# EAGLE library part STM8L051 (library stm8)
Value Line, 8-bit ultralow power MCU, 8-KB Flash, 256-byte data EEPROM, RTC, timers, USART, I2C, SPI, ADC
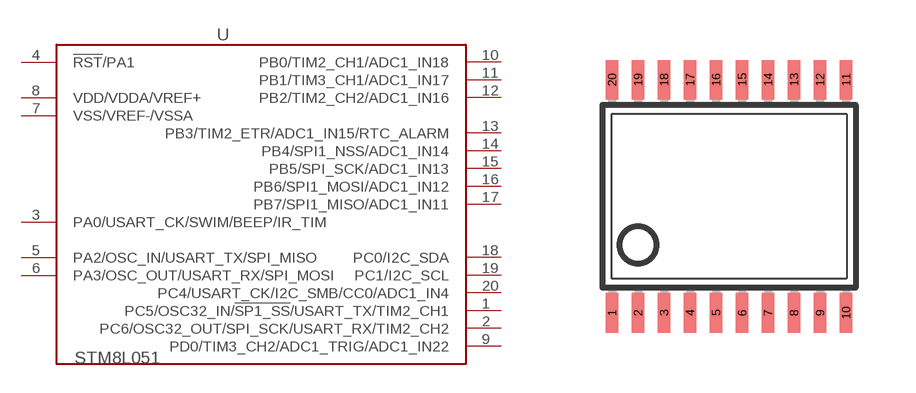
[diagram p1: symbol with the pads of TSSOP20; footprint TSSOP20]

Designator prefix -

## STM8L051F3  [TSSOP20]
1  PC5/OSC32_IN/!SP1_SS!/USART_TX/TIM2_CH1
2  PC6/OSC32_OUT/SPI_SCK/USART_RX/TIM2_CH2
3  PA0/USART_CK/SWIM/BEEP/IR_TIM  pwr
4  !RST!/PA1  in
5  PA2/OSC_IN/USART_TX/SPI_MISO
6  PA3/OSC_OUT/USART_RX/SPI_MOSI
7  VSS/VREF-/VSSA  pwr
8  VDD/VDDA/VREF+  pwr
9  PD0/TIM3_CH2/ADC1_TRIG/ADC1_IN22
10  PB0/TIM2_CH1/ADC1_IN18
11  PB1/TIM3_CH1/ADC1_IN17
12  PB2/TIM2_CH2/ADC1_IN16
13  PB3/TIM2_ETR/ADC1_IN15/RTC_ALARM
14  PB4/SPI1_NSS/ADC1_IN14
15  PB5/SPI_SCK/ADC1_IN13
16  PB6/SPI1_MOSI/ADC1_IN12
17  PB7/SPI1_MISO/ADC1_IN11
18  PC0/I2C_SDA
19  PC1/I2C_SCL
20  PC4/USART_CK/I2C_SMB/CC0/ADC1_IN4

## Footprint TSSOP20 (pad centres in mm)
Thin Shrink Small Outline Plastic 20 MAX3223-MAX3243.pdf
smd 0.305 x 0.991: 1 -2.925,-2.918; 2 -2.275,-2.918; 3 -1.625,-2.918; 4 -0.975,-2.918; 5 -0.325,-2.918; 6 0.325,-2.918; 7 0.975,-2.918; 8 1.625,-2.918; 9 2.275,-2.918; 10 2.925,-2.918; 11 2.925,2.918; 12 2.275,2.918; 13 1.625,2.918; 14 0.975,2.918; 15 0.325,2.918; 16 -0.325,2.918; 17 -0.975,2.918; 18 -1.625,2.918; 19 -2.275,2.918; 20 -2.925,2.918